# EAGLE library part LT1499 (library linear-technology)
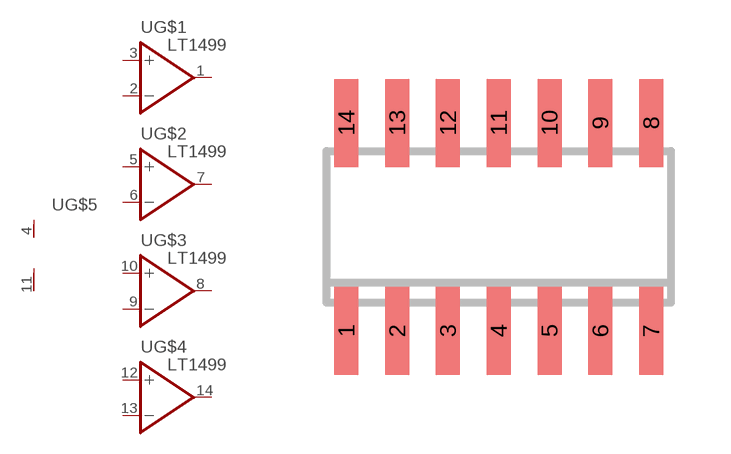
[diagram p29: symbol with the pads of SOIC14; footprint SOIC14]

Designator prefix -; gates G$1=OPAMP G$2=OPAMP G$3=OPAMP G$4=OPAMP G$5=V+-

## LT1499  [SOIC14]
1  G$1:OUT  out
2  G$1:-IN  in
3  G$1:+IN  in
4  G$5:V+  pwr
5  G$2:+IN  in
6  G$2:-IN  in
7  G$2:OUT  out
8  G$3:OUT  out
9  G$3:-IN  in
10  G$3:+IN  in
11  G$5:V-  pwr
12  G$4:+IN  in
13  G$4:-IN  in
14  G$4:OUT  out

## Footprint SOIC14 (pad centres in mm)
smd 0.6 x 2.2: 1 -3.81,-2.6; 2 -2.54,-2.6; 3 -1.27,-2.6; 4 0,-2.6; 5 1.27,-2.6; 6 2.54,-2.6; 7 3.81,-2.6; 8 3.81,2.6; 9 2.54,2.6; 10 1.27,2.6; 11 0,2.6; 12 -1.27,2.6; 13 -2.54,2.6; 14 -3.81,2.6